# EAGLE library part SMLP36RGB2W3R (library SMLP36RGB2W3R)
LED,RGB,35/110/35mcd,top-looking,1510 ROHM SMLP36RGB2W3R, SML-P36 Series 3 RGB LED, 475 (Blue) nm, 535 (Green) nm, 629 (Red) nm 6-Pin Milky White Source: Datasheet <http://www.rohm.com/web/global/datasheet/SMLP36RGB2W(R)>
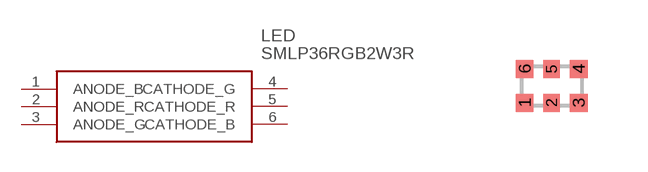
[diagram p0: symbol with the pads of ROHM-1510-(0604); footprint ROHM-1510-(0604)]

Designator prefix LED

## SMLP36RGB2W3R (Arrow_Part_Number: SMLP36RGB2W3R; Arrow_Price-Stock: https://www.arrow.com/en/products/smlp36rgb2w3r/rohm-semiconductor; Description: LED,RGB,35/110/35mcd,top-looking,1510 ROHM SMLP36RGB2W3R, SML-P36 Series 3 RGB LED, 475 (Blue) nm, 535 (Green) nm, 629 (Red) nm 6-Pin Milky White; Height: mm; Manufacturer_Name: ROHM Semiconductor; Manufacturer_Part_Number: SMLP36RGB2W3R; RS_Part_Number: 1246884P; RS_Price-Stock: http://uk.rs-online.com/web/p/products/1246884P)  [ROHM-1510-(0604)]
1  ANODE_B
2  ANODE_R
3  ANODE_G
4  CATHODE_G
5  CATHODE_R
6  CATHODE_B

## Footprint ROHM-1510-(0604) (pad centres in mm)
ROHM-1510-(0604)
smd 0.45 x 0.45: 1 -0.675,-0.425; 3 0.675,-0.425; 4 0.675,0.425; 6 -0.675,0.425
smd 0.4 x 0.45: 2 0,-0.425; 5 0,0.425